# Altium schematic symbol library AH1895-FA-7.SchLib: 1 symbol
Pins are listed as number, name and electrical type; pins without a type are passive.

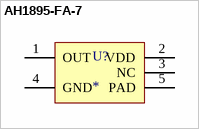
[diagram p0: symbol AH1895-FA-7]

## AH1895-FA-7
designator U?
pins: 1 OUT, 2 VDD, 3 NC, 4 GND, 5 PAD